# EAGLE library part V__VFD_FIP7BAM8 (library ++Bedrahtet)
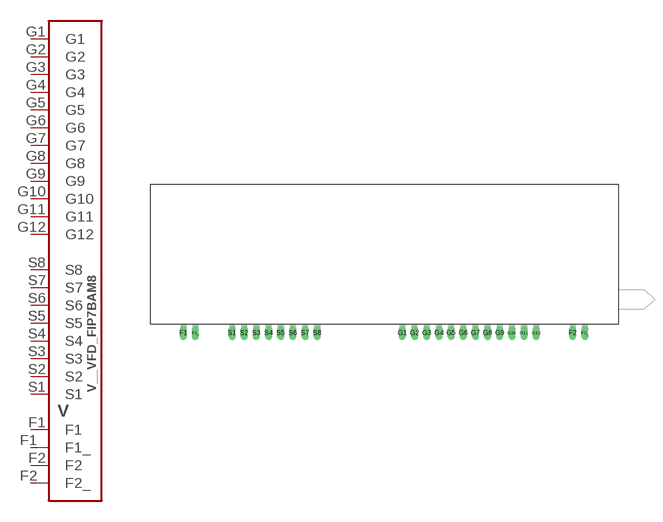
[diagram p58: symbol with the pads of VFD_FIP7BAM8; footprint VFD_FIP7BAM8]

Designator prefix V

## V__VFD_FIP7BAM8  [VFD_FIP7BAM8]
F1  F1
F1_  F1_
F2  F2
F2_  F2_
G1  G1
G2  G2
G3  G3
G4  G4
G5  G5
G6  G6
G7  G7
G8  G8
G9  G9
G10  G10
G11  G11
G12  G12
S1  S1
S2  S2
S3  S3
S4  S4
S5  S5
S6  S6
S7  S7
S8  S8

## Footprint VFD_FIP7BAM8 (pad centres in mm)
drill 1 long: F1 0,0; F1_ 2.54,0; F2 81.28,0; F2_ 83.82,0; G1 45.72,0; G2 48.26,0; G3 50.8,0; G4 53.34,0; G5 55.88,0; G6 58.42,0; G7 60.96,0; G8 63.5,0; G9 66.04,0; G10 68.58,0; G11 71.12,0; G12 73.66,0; S1 10.16,0; S2 12.7,0; S3 15.24,0; S4 17.78,0; S5 20.32,0; S6 22.86,0; S7 25.4,0; S8 27.94,0